# Altium schematic symbol library axsem_rf_shield.SCHLIB: 1 symbol
Pins are listed as number, name and electrical type; pins without a type are passive.

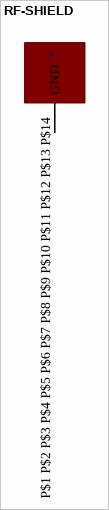
[diagram p0: symbol RF-SHIELD]

## RF-SHIELD
designator ?
footprint RF-SHIELD
pins: P$1 P$2 P$3 P$4 P$5 P$6 P$7 P$8 P$9 P$10 P$11 P$12 P$13 P$14 GND